# EAGLE library part HR961160C (library seb)
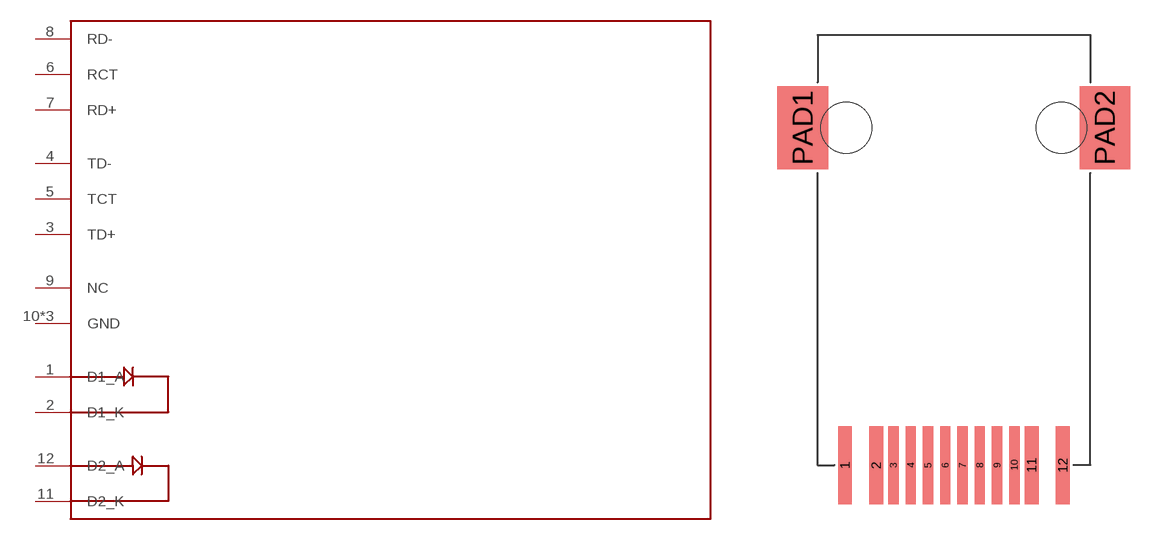
[diagram p23: symbol with the pads of HR961160C; footprint HR961160C]

Designator prefix -

## HR961160C  [HR961160C]
1  D1_A
2  D1_K
3  TD+
4  TD-
5  TCT
6  RCT
7  RD+
8  RD-
9  NC
10  GND
11  D2_K
12  D2_A
PAD1  GND
PAD2  GND

## Footprint HR961160C (pad centres in mm)
smd 0.81 x 4.6: 1 -6.43,0; 2 -4.59,0; 11 4.59,0; 12 6.43,0
smd 0.61 x 4.6: 3 -3.57,0; 4 -2.55,0; 5 -1.53,0; 6 -0.51,0; 7 0.51,0; 8 1.53,0; 9 2.55,0; 10 3.57,0
smd 3 x 4.9: PAD1 -8.92,19.92; PAD2 8.92,19.92
hole 3 at -6.35,19.92
hole 3 at 6.35,19.92